# EAGLE library part AP3602A (library Dennistries-Josh)
AP3602A DC/DC Converter 3V-5V in, 5V out
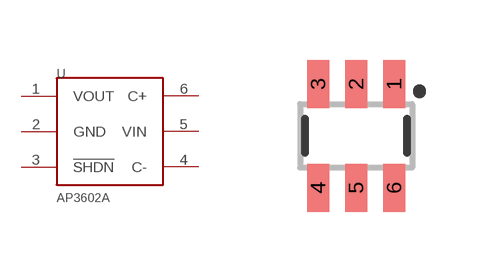
[diagram p4: symbol with the pads of SOT23-6; footprint SOT23-6]

Designator prefix -

## AP3602A  [SOT23-6]
1  VOUT
2  GND
3  !SHDN
4  C-
5  VIN
6  C+

## Footprint SOT23-6 (pad centres in mm)
SOT23-6 Specifications: Pin count: 6 Example device(s): MCP4725
smd 0.55 x 1.2: 1 0.95,1.3; 2 0,1.3; 3 -0.95,1.3; 4 -0.95,-1.3; 5 0,-1.3; 6 0.95,-1.3